# Altium footprint library ICSP_JTAG.PcbLib: 21 footprints (part 2 of 2)
Each footprint in its own frame and in the unit in brackets; x right, y up, seen from the top. Pads: shape width x height; smd on the part's side, far side on the other; paste and mask are expansions set on the pad; w line width, h text height; cw(c..) or ccw(c..) is an arc to the next point about the centre after c.
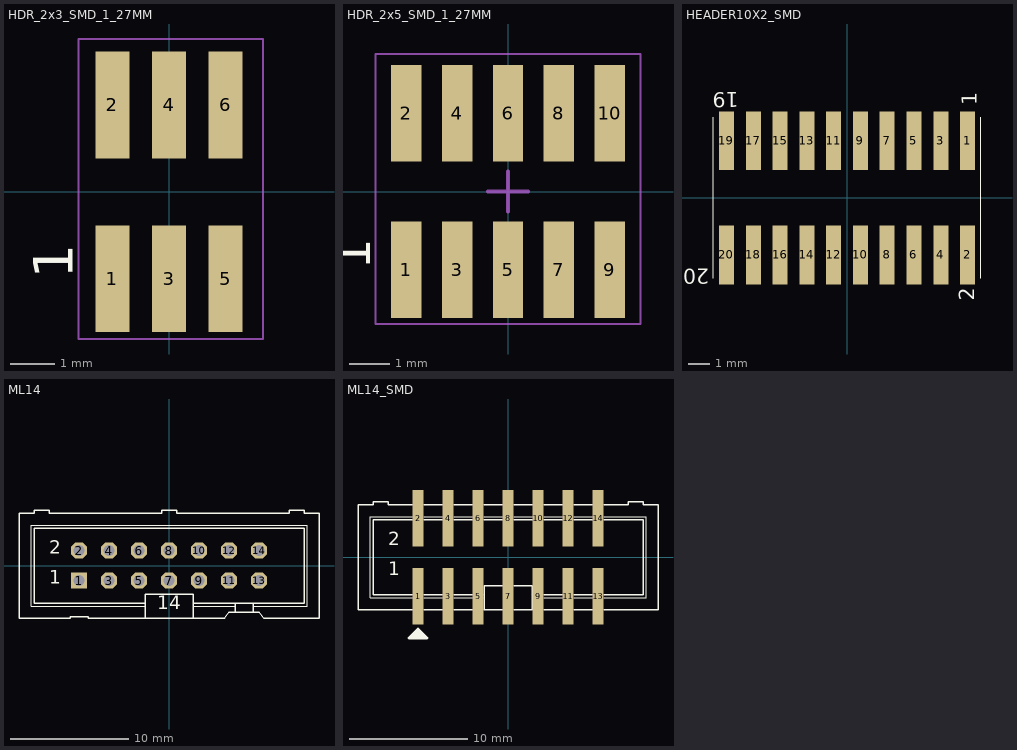
[diagram p1: the footprints below, top view; thin cyan lines are the x and y axes]

## HDR_2x3_SMD_1_27MM [mm]
pads (6):
  rect 0.76x2.4 smd: 1(-1.27,-1.95) 2(-1.27,1.95) 3(0,-1.95) 4(0,1.95) 5(1.27,-1.95) 6(1.27,1.95)
Top Overlay:
  text "1" at -2.159,-1.95 h0.89
Mechanical 15:
  lines w0.05: -2.032,-3.302 2.108,-3.302 2.108,3.429 -2.032,3.429 -2.032,-3.302
3D body "Diseñar1.stp": height 4.51, standoff 0.01, extent -1.854,-2.775 1.956,2.725

## HDR_2x5_SMD_1_27MM [mm]
pads (10):
  rect 0.76x2.4 smd: 1(-2.54,-1.95) 2(-2.54,1.95) 3(-1.27,-1.95) 4(-1.27,1.95) 5(0,-1.95) 6(0,1.95) 7(1.27,-1.95) 8(1.27,1.95) 9(2.54,-1.95) 10(2.54,1.95)
Top Overlay:
  text "1" at -3.429,-1.95 h0.89
Mechanical 15:
  lines w0.05: -3.302,-3.302 3.302,-3.302 3.302,3.429 -3.302,3.429 -3.302,-3.302
  lines w0.1: -0.5,0 0.5,0 ; 0,-0.5 0,0.5
3D body "20021121-00010XXLFc.STEP": height 4.5, standoff 0, extent -3.175,-2.751 3.175,2.749

## HEADER10X2_SMD [mil] "HEADER10X2_SMD"
pads (20):
  rect 28x110 smd mask+2: 1(225,106.5) 2(225,-106.5) 3(175,106.5) 4(175,-106.5) 5(125,106.5) 6(125,-106.5) 7(75,106.5) 8(75,-106.5) 9(25,106.5) 10(25,-106.5) 11(-25,106.5) 12(-25,-106.5) 13(-75,106.5) 14(-75,-106.5) 15(-125,106.5) 16(-125,-106.5) 17(-175,106.5) 18(-175,-106.5) 19(-225,106.5) 20(-225,-106.5)
Top Overlay:
  lines w1: -250,-150 -250,150 ; 250,-150 250,150
  text "1" at 242.5,172.5 h28
  text "2" at 237.5,-192.5 h28
  text "19" at -202.5,197.5 h28
  text "20" at -257.5,-132.5 h28

## ML14 [mil]
pads (14):
  rect 54x54 hole 36: 1(-300,-50)
  oct 54x54 hole 36: 2(-300,50) 3(-200,-50) 4(-200,50) 5(-100,-50) 6(-100,50) 7(0,-50) 8(0,50) 9(100,-50) 10(100,50) 11(200,-50) 12(200,50) 13(300,-50) 14(300,50)
Top Overlay:
  lines w2: -80,-135 -460,-135 -460,135 460,135 460,-135 280,-135 ; 80,-135 220,-135
  lines w5: -80,-175 -270,-175 -270,-170 -330,-170 -330,-175 -500,-175 -500,175 -450,175 -450,185 -400,185 -400,175 -25,175 -25,185 25,185 25,175 400,175 400,185 450,185 450,175 500,175 500,-175 315,-175 300,-155 280,-155 ; -80,-175 -80,-135 -80,-125 ; -80,-175 80,-175 ; -80,-125 -450,-125 -450,125 450,125 450,-125 280,-125 ; -80,-125 -80,-95 80,-95 80,-125 ; 80,-175 80,-135 80,-125 ; 80,-175 185,-175 200,-155 220,-155 ; 80,-125 220,-125 ; 220,-155 280,-155 ; 220,-155 220,-135 220,-125 ; 220,-125 280,-125 ; 280,-155 280,-135 280,-125
  text "2" at -400,25 h77.5
  text "1" at -400,-75 h77.5
  text "14" at -40,-160 h77.5
Mechanical 16:
  rectangle: -10,-60 10,-40
  rectangle: 90,-60 110,-40
  rectangle: -110,-60 -90,-40
  rectangle: -310,-60 -290,-40
  rectangle: -210,-60 -190,-40
  rectangle: -10,40 10,60
  rectangle: 90,40 110,60
  rectangle: -110,40 -90,60
  rectangle: -310,40 -290,60
  rectangle: -210,40 -190,60
  rectangle: 290,-60 310,-40
  rectangle: 190,-60 210,-40
  rectangle: 190,40 210,60
  rectangle: 290,40 310,60

## ML14_SMD [mil]
pads (14):
  rect 35.04x188.98 smd: 1(-300,-130) 2(-300,130) 3(-200,-130) 4(-200,130) 5(-100,-130) 6(-100,130) 7(0,-130) 8(0,130) 9(100,-130) 10(100,130) 11(200,-130) 12(200,130) 13(300,-130) 14(300,130)
Top Overlay:
  lines w2: -320,-135 -460,-135 -460,135 -320,135 ; -280,-135 -220,-135 ; -280,135 -220,135 ; -180,-135 -120,-135 ; -180,135 -120,135 ; -80,135 -20,135 ; 20,135 80,135 ; 120,-135 180,-135 ; 120,135 180,135 ; 220,-135 280,-135 ; 220,135 280,135 ; 320,-135 460,-135 460,135 320,135
  lines w5: -320,-175 -500,-175 -500,175 -450,175 -450,185 -400,185 -400,175 -320,175 ; -320,-125 -450,-125 -450,125 -320,125 ; -280,-175 -220,-175 ; -280,-125 -220,-125 ; -280,125 -220,125 ; -280,175 -220,175 ; -180,-175 -120,-175 ; -180,-125 -120,-125 ; -180,125 -120,125 ; -180,175 -120,175 ; -80,125 -20,125 ; -80,175 -20,175 ; -20,-175 -80,-175 -80,-95 -20,-95 ; 20,-175 80,-175 80,-95 20,-95 ; 20,125 80,125 ; 20,175 80,175 ; 120,-175 180,-175 ; 120,-125 180,-125 ; 120,125 180,125 ; 120,175 180,175 ; 220,-175 280,-175 ; 220,-125 280,-125 ; 220,125 280,125 ; 220,175 280,175 ; 320,-175 500,-175 500,175 450,175 450,185 400,185 400,175 320,175 ; 320,-125 450,-125 450,125 320,125
  lines w10: -310,-265 -310,-255 -315,-260 -315,-265 -285,-265 -300,-250 -305,-255 -295,-255 -300,-260 ; -275,-265 -275,-270 ; -275,-270 -330,-270 -300,-240 -270,-270 -275,-270
  text "1" at -400,-75 h77.5
  text "2" at -400,25 h77.5
Mechanical 16:
  rectangle: 290,40 310,60
  rectangle: 190,40 210,60
  rectangle: 190,-60 210,-40
  rectangle: 290,-60 310,-40
  rectangle: -210,40 -190,60
  rectangle: -310,40 -290,60
  rectangle: -110,40 -90,60
  rectangle: 90,40 110,60
  rectangle: -10,40 10,60
  rectangle: -210,-60 -190,-40
  rectangle: -310,-60 -290,-40
  rectangle: -110,-60 -90,-40
  rectangle: 90,-60 110,-40
  rectangle: -10,-60 10,-40
  rectangle: -210,40 -190,60
  rectangle: -210,-60 -190,-40
  rectangle: -110,40 -90,60
  rectangle: -110,-60 -90,-40
  rectangle: -10,40 10,60
  rectangle: -10,-60 10,-40
  rectangle: 90,40 110,60
  rectangle: 90,-60 110,-40
  rectangle: 190,40 210,60
  rectangle: 190,-60 210,-40
  lines w2: -320,-135 -280,-135 ; -320,135 -280,135 ; -220,-135 -180,-135 ; -220,135 -180,135 ; -120,-135 -80,-135 ; -120,135 -80,135 ; -20,135 20,135 ; 80,-135 120,-135 ; 80,135 120,135 ; 180,-135 220,-135 ; 180,135 220,135 ; 280,-135 320,-135 ; 280,135 320,135
  lines w5: -320,-175 -280,-175 ; -320,-125 -280,-125 ; -320,125 -280,125 ; -320,175 -280,175 ; -220,-175 -180,-175 ; -220,-125 -180,-125 ; -220,125 -180,125 ; -220,175 -180,175 ; -120,-175 -80,-175 ; -120,-125 -80,-125 ; -120,125 -80,125 ; -120,175 -80,175 ; -20,-175 20,-175 ; -20,-95 20,-95 ; -20,125 20,125 ; -20,175 20,175 ; 80,-175 120,-175 ; 80,-125 120,-125 ; 80,125 120,125 ; 80,175 120,175 ; 180,-175 220,-175 ; 180,-125 220,-125 ; 180,125 220,125 ; 180,175 220,175 ; 280,-175 320,-175 ; 280,-125 320,-125 ; 280,125 320,125 ; 280,175 320,175
3D body "SBH11-_ _ _C-D07-SM-_ _.STEP": height 418.61, standoff 0.5, extent -497.27,-202 498,203.51